# EAGLE library part SN74HCS273PWR (library SN74HCS273PWR)
Flip Flops Octal D-type flip-flops with clear with Schmitt-trigger inputs Source: Datasheet <https://www.ti.com/general/docs/suppproductinfo.tsp?distId=26&gotoUrl=https://www.ti.com/lit/gpn/sn74hcs273>
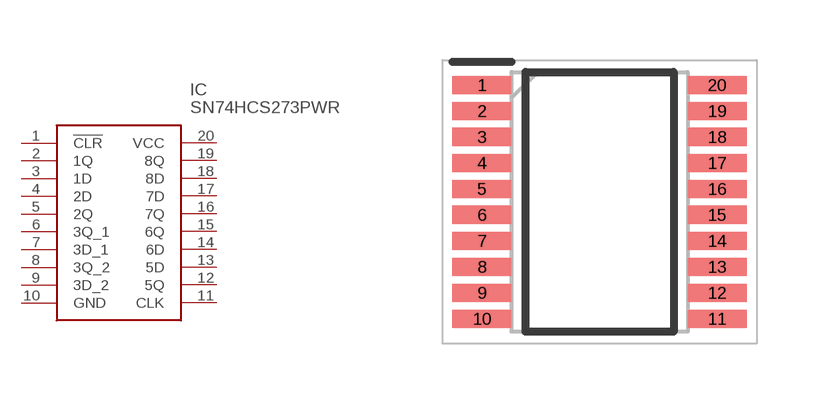
[diagram p0: symbol with the pads of SOP65P640X120-20N; footprint SOP65P640X120-20N]

Designator prefix IC

## SN74HCS273PWR (Description: Flip Flops Octal D-type flip-flops with clear with Schmitt-trigger inputs; Height: 1.2mm; Manufacturer_Name: Texas Instruments; Manufacturer_Part_Number: SN74HCS273PWR; Mouser_Part_Number: 595-SN74HCS273PWR; Mouser_Price-Stock: https://www.mouser.co.uk/ProductDetail/Texas-Instruments/SN74HCS273PWR?qs=QNEnbhJQKvYIJo9rBWLKyw%3D%3D)  [SOP65P640X120-20N]
1  !CLR
2  1Q
3  1D
4  2D
5  2Q
6  3Q_1
7  3D_1
8  3Q_2
9  3D_2
10  GND
11  CLK
12  5Q
13  5D
14  6D
15  6Q
16  7Q
17  7D
18  8D
19  8Q
20  VCC

## Footprint SOP65P640X120-20N (pad centres in mm)
PW0020A
smd 1.475 x 0.45: 1 -2.938,2.925; 2 -2.938,2.275; 3 -2.938,1.625; 4 -2.938,0.975; 5 -2.938,0.325; 6 -2.938,-0.325; 7 -2.938,-0.975; 8 -2.938,-1.625; 9 -2.938,-2.275; 10 -2.938,-2.925; 11 2.938,-2.925; 12 2.938,-2.275; 13 2.938,-1.625; 14 2.938,-0.975; 15 2.938,-0.325; 16 2.938,0.325; 17 2.938,0.975; 18 2.938,1.625; 19 2.938,2.275; 20 2.938,2.925